# Altium schematic symbol library Resistors.Schlib: 1 symbol
Pins are listed as number, name and electrical type; pins without a type are passive.

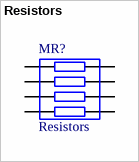
[diagram p0: symbol Resistors]

## Resistors
designator MR?
Chip Resistor Array; Наименование: CAT16-F4; Назначение: Резистивная сборка 4х1206
footprint CAT16-F4
pins: 1, 2, 3, 4, 5, 6, 7, 8